# Altium footprint library P2-Adapter_ver1.PcbLib: 42 footprints (part 2 of 3)
Each footprint in its own frame and in the unit in brackets; x right, y up, seen from the top. Pads: shape width x height; smd on the part's side, far side on the other; paste and mask are expansions set on the pad; w line width, h text height; cw(c..) or ccw(c..) is an arc to the next point about the centre after c.
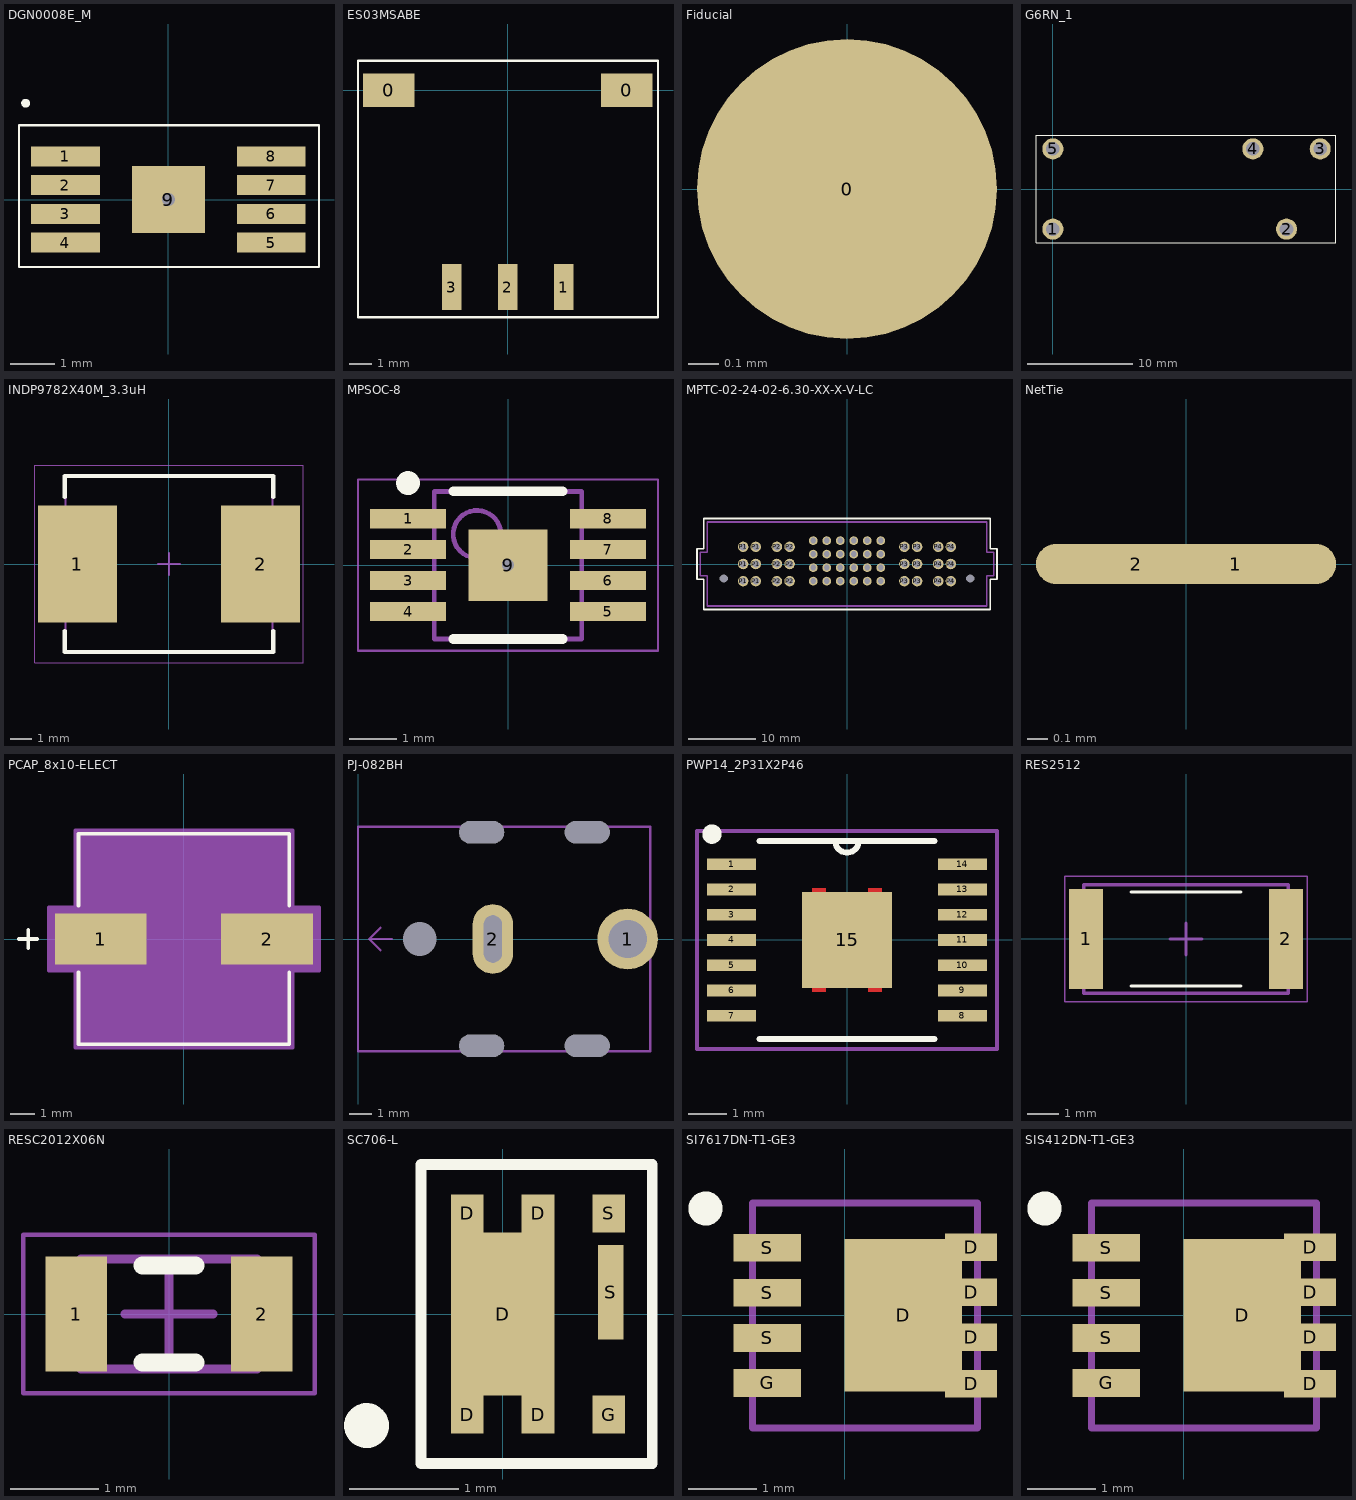
[diagram p1: the footprints below, top view; thin cyan lines are the x and y axes]

## DGN0008E_M [mm]
pads (9):
  rect 1.55x0.45 smd: 1(-2.325,0.975) 2(-2.325,0.325) 3(-2.325,-0.325) 4(-2.325,-0.975) 5(2.325,-0.975) 6(2.325,-0.325) 7(2.325,0.325) 8(2.325,0.975)
  rect 1.65x1.51 smd paste+0 mask+0.051: 9(0,0)
via 0,0 diameter 0.6 hole 0.3
Top Overlay:
  circle w0.1: c-3.225,2.175 r0.05
  lines w0.05: -3.375,-1.525 3.4,-1.525 3.4,1.675 -3.375,1.675 -3.375,-1.525
Mechanical 15:
  lines w0.1: -0.5,0 0.5,0 ; 0,-0.5 0,0.5
3D body: height 1.1, standoff 0, extent -1.625,-1.302 1.575,1.302

## ES03MSABE [mm]
pads (5):
  rect 2.325x1.52 smd: 0(-5.378,0) 0(5.378,0)
  rect 0.89x2.08 smd: 1(2.54,-8.92) 2(0,-8.92) 3(-2.54,-8.92)
Top Overlay:
  lines w0.1: -6.775,-10.275 6.8,-10.275 6.8,1.1 6.8,1.325 -6.775,1.325 -6.775,-10.275
3D body "ES01MSABE.stp": height 7.01, standoff 0.23, extent -6.267,-9.725 6.167,4.054

## Fiducial [mm]
pads (1):
  round 1 smd paste+0 mask+1: 0(0,0)

## G6RN_1 [mm]
pads (5):
  round 2 hole 1.3: 1(0,-3.81) 2(22.2,-3.81) 3(25.4,3.81) 4(19,3.81) 5(0,3.81)
Top Overlay:
  lines w0.1: -1.6,-5.1 26.9,-5.1 26.9,5.1 -1.6,5.1 -1.6,-5.1
3D body "G6RN_1.step": height 15, standoff -3.5, extent -1.6,-5 26.9,5

## INDP9782X40M_3.3uH [mm] "Precision Wire Wound Inductor, 2-Leads, Body 9,65x8,18mm, IPC Low Density"
height 4
pads (2):
  rect 3.7x5.45 smd: 1(-4.263,0) 2(4.263,0)
Top Overlay:
  lines w0.2: -4.85,-3.125 -4.85,-4.1 4.85,-4.1 4.85,-3.125 ; -4.85,3.125 -4.85,4.1 4.85,4.1 4.85,3.125
Mechanical 13:
  lines w0.1: -4.825,-4.09 -4.825,4.09 4.825,4.09 4.825,-4.09 -4.825,-4.09
Mechanical 15:
  lines w0.05: -6.25,-4.6 -6.25,4.6 6.25,4.6 6.25,-4.6 -6.25,-4.6
  lines w0.1: -0.5,0 0.5,0 ; 0,-0.5 0,0.5
3D body: height 4, standoff 0, extent -4.825,-4.09 4.825,4.09

## MPSOC-8 [mm]
height 1.1
pads (9):
  rect 1.6x0.4 smd: 1(-2.1,0.975) 2(-2.1,0.325) 3(-2.1,-0.325) 4(-2.1,-0.975) 5(2.1,-0.975) 6(2.1,-0.325) 7(2.1,0.325) 8(2.1,0.975)
  rect 1.65x1.5 smd: 9(0,0)
via 0,0 diameter 0.5 hole 0.25
Top Overlay:
  circle w0.25: c-2.1,1.725 r0.125
  lines w0.2: -1.15,-1.55 1.15,-1.55 ; -1.15,1.55 1.15,1.55
Mechanical 15:
  circle w0.1: c-0.65,0.65 r0.5
  lines w0.05: -3.15,-1.8 -3.15,1.8 3.15,1.8 3.15,-1.8 -3.15,-1.8
  lines w0.1: -0.5,0 0.5,0 ; 0,-0.5 0,0.5 ; -1.55,-1.55 -1.55,1.55 1.55,1.55 1.55,-1.55 -1.55,-1.55
3D body: height 1.1, standoff 0.1, extent -1.55,-1.55 1.55,1.55

## MPTC-02-24-02-6.30-XX-X-V-LC [mm] "Samtec Power Strip 30A series MPTC"
pads (50):
  round 0 hole 1.19 unplated: 0(-18.255,-2.145) 0(18.255,-2.145)
  round 1.3 hole 0.86 mask+0.075: A1(-5,-2.535) A2(-3,-2.535) A3(-1,-2.535) A4(1,-2.535) A5(3,-2.535) A6(5,-2.535) B1(-5,-0.535) B2(-3,-0.535) B3(-1,-0.535) B4(1,-0.535) B5(3,-0.535) B6(5,-0.535) C1(-5,1.465) C2(-3,1.465) C3(-1,1.465) C4(1,1.465) C5(3,1.465) C6(5,1.465) D1(-5,3.465) D2(-3,3.465) D3(-1,3.465) D4(1,3.465) D5(3,3.465) D6(5,3.465)
  round 1.56 hole 1.04 mask+0.075: P1(-15.385,-2.54) P1(-15.385,0) P1(-15.385,2.54) P1(-13.505,-2.54) P1(-13.505,0) P1(-13.505,2.54) P2(-10.385,-2.54) P2(-10.385,0) P2(-10.385,2.54) P2(-8.505,-2.54) P2(-8.505,0) P2(-8.505,2.54) P3(8.505,-2.54) P3(8.505,0) P3(8.505,2.54) P3(10.385,-2.54) P3(10.385,0) P3(10.385,2.54) P4(13.505,-2.54) P4(13.505,0) P4(13.505,2.54) P4(15.385,-2.54) P4(15.385,0) P4(15.385,2.54)
Top Overlay:
  lines w0.254: -22.22,-2.25 -22.22,2.25 -21.22,2.25 -21.22,6.725 21.22,6.725 21.22,2.25 22.22,2.25 22.22,-2.25 21.22,-2.25 21.22,-6.725 -21.234,-6.725 -21.234,-2.25 -22.22,-2.25
Mechanical 15:
  lines w0.254: -21.72,-1.75 -21.72,1.75 -20.72,1.75 -20.72,6.225 20.72,6.225 20.72,1.75 21.72,1.75 21.72,-1.75 20.72,-1.75 20.72,-6.225 -20.72,-6.225 -20.72,-1.75 -21.72,-1.75
3D body "MPTC-02-24-02-6.30-01-L-V.stp": height 11.38, standoff -2.72, extent -21.725,-6.225 21.725,6.225

## NetTie [mm] "Dummy Net Tie"
pads (2):
  oval 1x0.2 smd paste-0.5 mask-0.5: 1(0.25,0) 2(-0.25,0)

## PCAP_8x10-ELECT [mil]
pads (2):
  rect 150x83 smd paste+0 mask+0: 1(-136,0) 2(136,0)
Top Overlay:
  lines w6: -270,0 -240,0 ; -255,-15 -255,15 ; -172.5,-54.6 -172.5,-172.5 172.5,-172.5 172.5,-54.6 ; -172.5,54.6 -172.5,172.5 172.5,172.5 172.5,54.6
Mechanical 15:
  region: -177.5,-51.5 -221,-51.5 -221,51.5 -177.5,51.5 -177.5,177.5 177.5,177.5 177.5,51.5 221,51.5 221,-51.5 177.5,-51.5 177.5,-177.5 -177.5,-177.5
  lines w6: -221,-51.5 -221,51.5 -177.5,51.5 -177.5,177.5 177.5,177.5 177.5,51.5 221,51.5 221,-51.5 177.5,-51.5 177.5,-177.5 -177.5,-177.5 -177.5,-51.5 -221,-51.5
3D body "PCAP_8x10-ELECT.step": height 407.09, standoff 0, extent -183.97,-168.46 182.01,166.5

## PJ-082BH [mm]
pads (7):
  round 0 hole 1.5 unplated: 0(2.75,0)
  round 0 hole 1 slot 2 at 0 deg unplated: 0(5.5,-4.75) 0(5.5,4.75) 0(10.2,-4.75) 0(10.2,4.75)
  round 2.7 hole 1.7: 1(12,0)
  oval 1.8x3.1 hole 0.8 slot 2.1 at 90 deg: 2(6,0)
Mechanical 15:
  lines w0.1: 1,-0.5 0.5,0 ; 1,0.5 0.5,0 ; 1.5,0 0.5,0 ; 0,-5 0,5 13,5 13,-5 0,-5
3D body "pj-082bh.stp": height 10.01, standoff -2.19, extent 0,-5.1 13.13,5.1

## PWP14_2P31X2P46 [mil]
pads (15):
  rect 50x12 smd: 1(-117,76.77) 2(-117,51.18) 3(-117,25.59) 4(-117,0) 5(-117,-25.59) 6(-117,-51.18) 7(-117,-76.77) 8(117,-76.77) 9(117,-51.18) 10(117,-25.59) 11(117,0) 12(117,25.59) 13(117,51.18) 14(117,76.77)
  rect 90.94x96.85 smd: 15(0,0)
Top Layer:
  region: 0,48.43
  region: 0,-48.43
  region: 35.43,48.43 21.65,48.43 21.65,52.36 35.43,52.36
  region: -35.43,48.43 -21.65,48.43 -21.65,52.36 -35.43,52.36
  region: -35.43,-48.43 -21.65,-48.43 -21.65,-52.36 -35.43,-52.36
  region: 35.43,-48.43 21.65,-48.43 21.65,-52.36 35.43,-52.36
Top Overlay:
  circle w9.84: c-136.81,107.28 r4.92
  lines w6: -88.5,-100.5 88.5,-100.5 ; -88.5,100.5 88.5,100.5 ; -12,100.5 ccw(c0,100.5) 12,100.5
Top Solder:
  region: 0,48.43
  region: 0,-48.43
  region: 35.43,48.43 21.65,48.43 21.65,52.36 35.43,52.36
  region: -35.43,48.43 -21.65,48.43 -21.65,52.36 -35.43,52.36
  region: -35.43,-48.43 -21.65,-48.43 -21.65,-52.36 -35.43,-52.36
  region: 35.43,-48.43 21.65,-48.43 21.65,-52.36 35.43,-52.36
Mechanical 13:
  lines w0: -12,100.5 ccw(c0,100.5) 12,100.5
Mechanical 15:
  lines w3.94: -152,-110.5 -152,110.5 152,110.5 152,-110.5 -152,-110.5
3D body: height 47.24, standoff 0, extent -88.58,-101.38 88.58,101.38

## RES2512 [mm] "Chip Resistor, 2-Leads, Body 6,30x3,20mm, IPC Medium Density"
height 0.7
pads (2):
  rect 1.08x3.18 smd: 1(-3.175,0) 2(3.175,0)
Top Overlay:
  lines w0.1: -1.75,-1.49 1.75,-1.49 ; -1.75,1.49 1.75,1.49
Mechanical 13:
  lines w0.1: -3.25,-1.725 -3.25,1.725 3.25,1.725 3.25,-1.725 -3.25,-1.725
Mechanical 15:
  lines w0.05: -3.85,-2 -3.85,2 3.85,2 3.85,-2 -3.85,-2
  lines w0.1: -0.5,0 0.5,0 ; 0,-0.5 0,0.5
3D body: height 0.7, standoff 0, extent -2.65,-1.725 2.65,1.725
3D body: height 0.7, standoff 0, extent -3.25,-1.725 -2.65,1.725
3D body: height 0.7, standoff 0, extent 2.65,-1.725 3.25,1.725

## RESC2012X06N [mm] "Chip Resistor, 2-Leads, Body 2.00x1.25mm, IPC Medium Density"
height 0.6
pads (2):
  rect 0.7x1.3 smd: 1(-1.05,0) 2(1.05,0)
Top Overlay:
  lines w0.2: -0.3,-0.55 0.3,-0.55 ; -0.3,0.55 0.3,0.55
Mechanical 13:
  lines w0.1: -1,-0.625 -1,0.625 1,0.625 1,-0.625 -1,-0.625
Mechanical 15:
  lines w0.05: -1.65,-0.9 -1.65,0.9 1.65,0.9 1.65,-0.9 -1.65,-0.9
  lines w0.1: -0.5,0 0.5,0 ; 0,-0.5 0,0.5
3D body: height 0.6, standoff 0, extent -0.75,-0.625 0.75,0.625
3D body: height 0.6, standoff 0, extent -1,-0.625 -0.75,0.625
3D body: height 0.6, standoff 0, extent 0.75,-0.625 1,0.625

## SC706-L [mm] "SIA483"
pads (8):
  rect 0.3x0.35 smd: D(-0.325,-0.925) D(-0.325,0.925) D(0.325,-0.925) D(0.325,0.925) G(0.975,-0.925) S(0.975,0.925)
  rect 0.95x1.5 smd: D(0,0)
  rect 0.235x0.87 smd: S(0.992,0.2)
Top Overlay:
  circle w0.254: c-1.25,-1.025 r0.079
  lines w0.1: -0.75,-1.375 1.375,-1.375 1.375,1.375 -0.75,1.375 -0.75,-1.375

## SI7617DN-T1-GE3 [mm]
pads (9):
  rect 1.725x2.235 smd: D(0.863,0)
  rect 0.76x0.405 smd: D(1.855,-1) D(1.855,-0.32) D(1.855,0.34) D(1.855,1)
  rect 0.99x0.405 smd: G(-1.13,-0.99) S(-1.13,-0.33) S(-1.13,0.33) S(-1.13,0.99)
Top Overlay:
  circle w0.25: c-2.037,1.567 r0.125
Mechanical 15:
  lines w0.1: -1.35,-1.65 1.95,-1.65 1.95,1.65 -1.35,1.65 -1.35,-1.65
3D body: height 1.12, standoff 0, extent -1.35,-1.65 1.95,1.65

## SIS412DN-T1-GE3 [mm]
pads (9):
  rect 1.725x2.235 smd: D(0.863,0)
  rect 0.76x0.405 smd: D(1.855,-1) D(1.855,-0.32) D(1.855,0.34) D(1.855,1)
  rect 0.99x0.405 smd: G(-1.13,-0.99) S(-1.13,-0.33) S(-1.13,0.33) S(-1.13,0.99)
Top Overlay:
  circle w0.25: c-2.037,1.567 r0.125
Mechanical 15:
  lines w0.1: -1.35,-1.65 1.95,-1.65 1.95,1.65 -1.35,1.65 -1.35,-1.65
3D body: height 1.12, standoff 0, extent -1.35,-1.65 1.95,1.65